# EAGLE library part SPARKFUN-RN52 (library stopwatch)
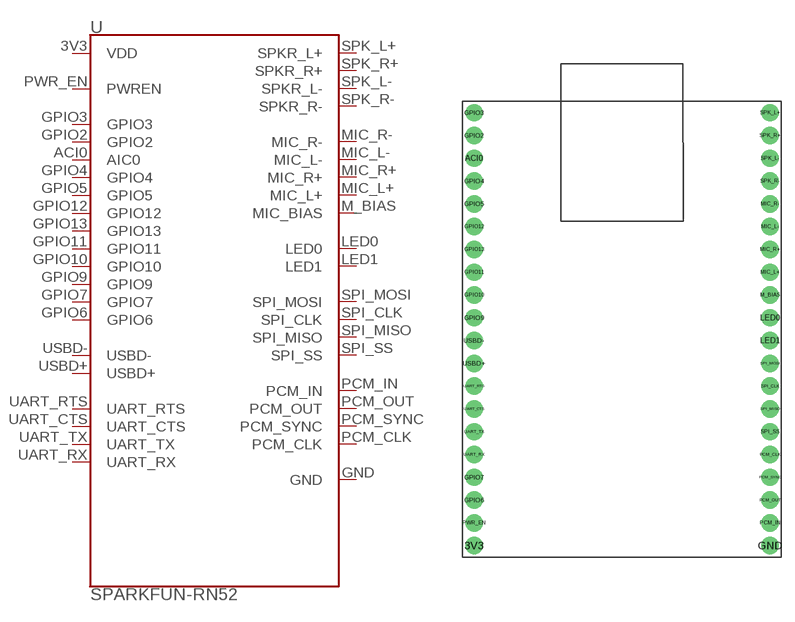
[diagram p4: symbol with the pads of SPARKFUN-RN52; footprint SPARKFUN-RN52]

Designator prefix -

## SPARKFUN-RN52  [SPARKFUN-RN52]
3V3  VDD
ACI0  AIC0
GND  GND
GPIO2  GPIO2
GPIO3  GPIO3
GPIO4  GPIO4
GPIO5  GPIO5
GPIO6  GPIO6
GPIO7  GPIO7
GPIO9  GPIO9
GPIO10  GPIO10
GPIO11  GPIO11
GPIO12  GPIO12
GPIO13  GPIO13
LED0  LED0
LED1  LED1
M_BIAS  MIC_BIAS
MIC_L+  MIC_L+
MIC_L-  MIC_L-
MIC_R+  MIC_R+
MIC_R-  MIC_R-
PCM_CLK  PCM_CLK
PCM_IN  PCM_IN
PCM_OUT  PCM_OUT
PCM_SYNC  PCM_SYNC
PWR_EN  PWREN
SPI_CLK  SPI_CLK
SPI_MISO  SPI_MISO
SPI_MOSI  SPI_MOSI
SPI_SS  SPI_SS
SPK_L+  SPKR_L+
SPK_L-  SPKR_L-
SPK_R+  SPKR_R+
SPK_R-  SPKR_R-
UART_CTS  UART_CTS
UART_RTS  UART_RTS
UART_RX  UART_RX
UART_TX  UART_TX
USBD+  USBD+
USBD-  USBD-

## Footprint SPARKFUN-RN52 (pad centres in mm)
drill 1 pad 1.93: 3V3 1.27,1.27; ACI0 1.27,44.45; GND 34.29,1.27; GPIO2 1.27,46.99; GPIO3 1.27,49.53; GPIO4 1.27,41.91; GPIO5 1.27,39.37; GPIO6 1.27,6.35; GPIO7 1.27,8.89; GPIO9 1.27,26.67; GPIO10 1.27,29.21; GPIO11 1.27,31.75; GPIO12 1.27,36.83; GPIO13 1.27,34.29; LED0 34.29,26.67; LED1 34.29,24.13; M_BIAS 34.29,29.21; MIC_L+ 34.29,31.75; MIC_L- 34.29,36.83; MIC_R+ 34.29,34.29; MIC_R- 34.29,39.37; PCM_CLK 34.29,11.43; PCM_IN 34.29,3.81; PCM_OUT 34.29,6.35; PCM_SYNC 34.29,8.89; PWR_EN 1.27,3.81; SPI_CLK 34.29,19.05; SPI_MISO 34.29,16.51; SPI_MOSI 34.29,21.59; SPI_SS 34.29,13.97; SPK_L+ 34.29,49.53; SPK_L- 34.29,44.45; SPK_R+ 34.29,46.99; SPK_R- 34.29,41.91; UART_CTS 1.27,16.51; UART_RTS 1.27,19.05; UART_RX 1.27,11.43; UART_TX 1.27,13.97; USBD+ 1.27,21.59; USBD- 1.27,24.13